# Altium footprint library Hauptplatine1.PcbLib: 50 footprints (part 1 of 4)
Each footprint in its own frame and in the unit in brackets; x right, y up, seen from the top. Pads: shape width x height; smd on the part's side, far side on the other; paste and mask are expansions set on the pad; w line width, h text height; cw(c..) or ccw(c..) is an arc to the next point about the centre after c.
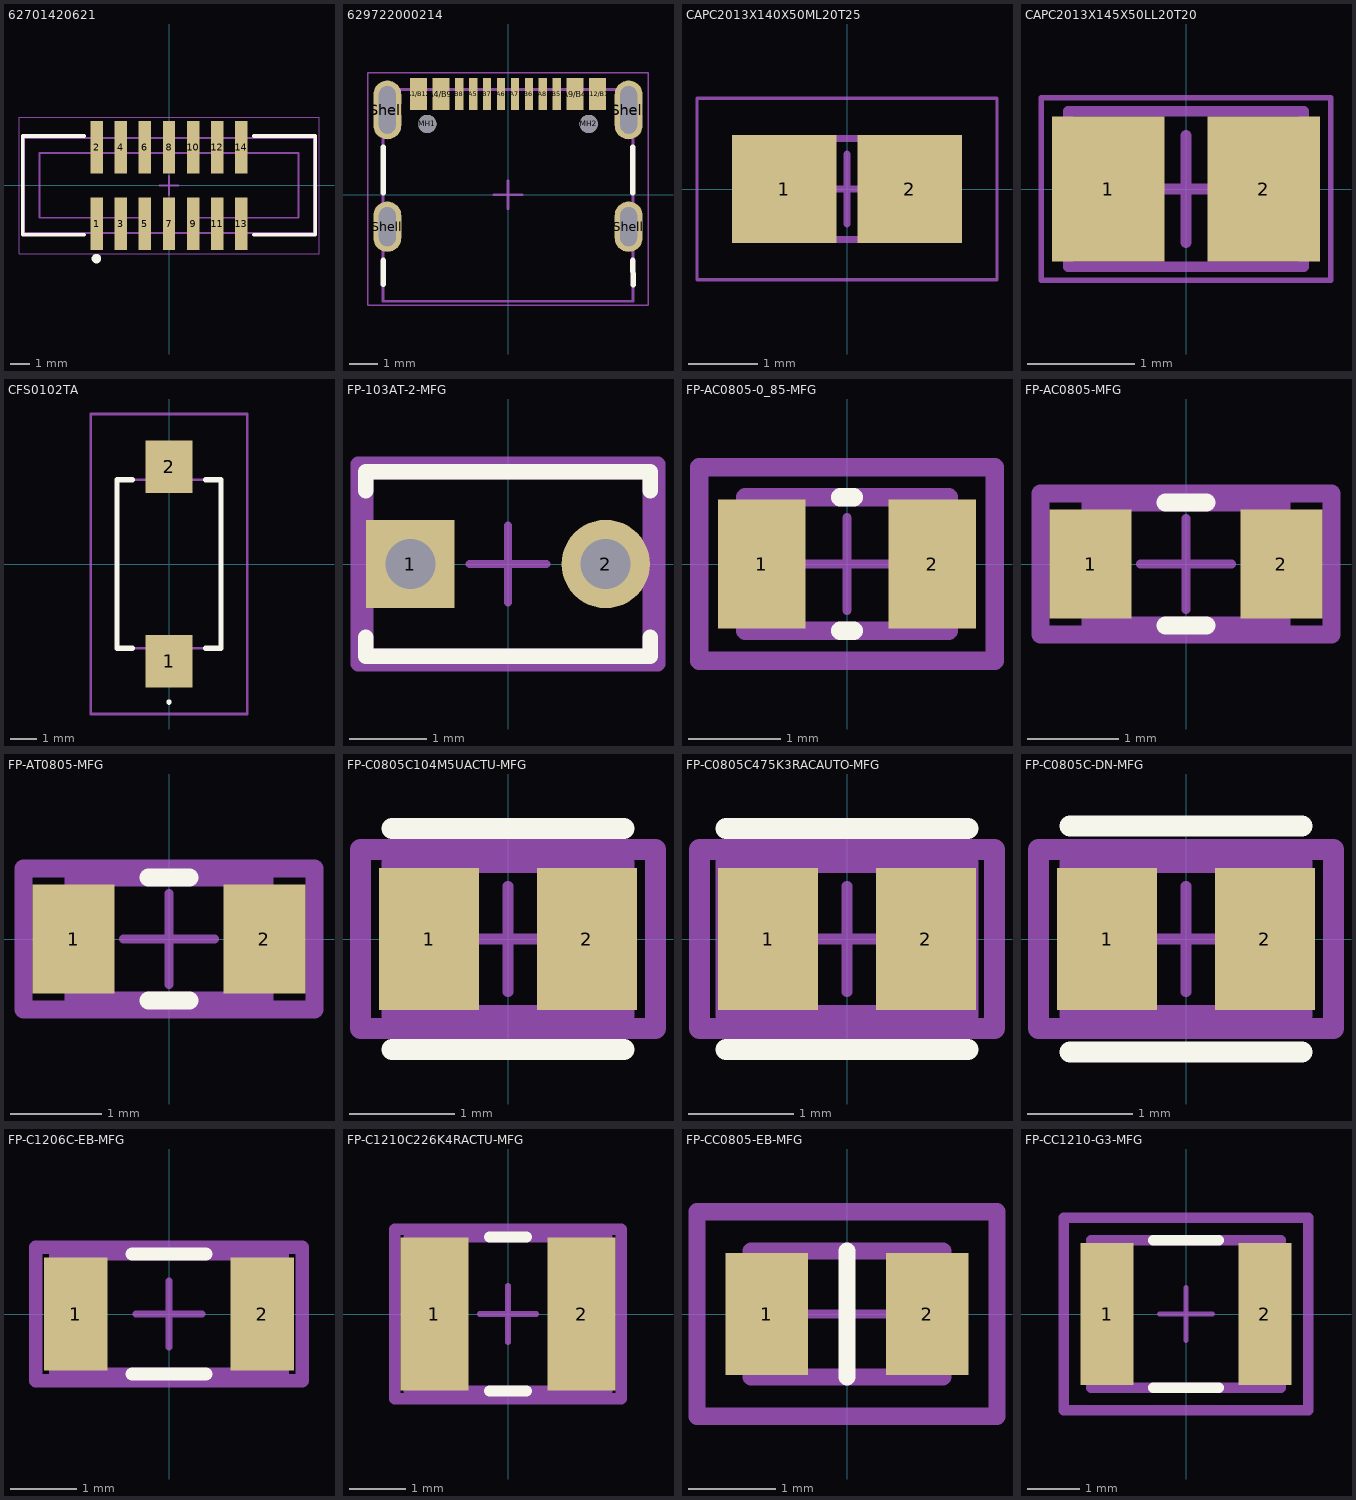
[diagram p0: the footprints below, top view; thin cyan lines are the x and y axes]

## 62701420621 [mm] "Boc Header SMT type, 14p"
height 5.3
pads (14):
  rect 0.65x2.76 smd: 1(-3.81,-2.02) 2(-3.81,2.02) 3(-2.54,-2.02) 4(-2.54,2.02) 5(-1.27,-2.02) 6(-1.27,2.02) 7(0,-2.02) 8(0,2.02) 9(1.27,-2.02) 10(1.27,2.02) 11(2.54,-2.02) 12(2.54,2.02) 13(3.81,-2.02) 14(3.81,2.02)
Top Overlay:
  circle w0.25: c-3.82,-3.85 r0.125
  lines w0.2: -4.47,-2.6 -7.695,-2.6 -7.695,2.6 -4.47,2.6 ; 4.47,-2.6 7.695,-2.6 7.695,2.6 4.47,2.6
Top 3D Body:
  lines w0.1: -1.2,-2.5 -1.2,-1.7 -6.82,-1.7 -6.82,1.7 6.82,1.7 6.82,-1.7 1.2,-1.7 1.2,-2.5 ; -7.62,-2.5 -7.62,2.5 7.62,2.5 7.62,-2.5 -7.62,-2.5
Top Courtyard:
  lines w0.05: -7.895,-3.6 7.895,-3.6 7.895,3.6 -7.895,3.6 -7.895,-3.6
Top Assembly:
  lines w0.1: -1.2,-2.5 -1.2,-1.7 -6.82,-1.7 -6.82,1.7 6.82,1.7 6.82,-1.7 1.2,-1.7 1.2,-2.5 ; -7.62,-2.5 7.62,-2.5 7.62,2.5 -7.62,2.5 -7.62,-2.5
Top Designator:
  text ".Designator" at -3.647,-0.357 h1
Top Component Center:
  lines w0.1: -0.5,0 0.5,0 ; 0,-0.5 0,0.5
3D body "62701420621.stp": height 5.2, standoff -0.04, extent -7.62,-2.8 7.62,2.8

## 629722000214 [mm] "USB TYPE C VERTICAL PLUG"
height 3.31
pads (18):
  rect 0.6x1.14 smd: A1/B12(-3.2,3.605) A4/B9(-2.4,3.605) A9/B4(2.4,3.605) A12/B1(3.2,3.605)
  rect 0.3x1.14 smd: A5(-1.25,3.605) A6(-0.25,3.605) A7(0.25,3.605) A8(1.25,3.605) B5(1.75,3.605) B6(0.75,3.605) B7(-0.75,3.605) B8(-1.75,3.605)
  round 0.65 hole 0.65 unplated: MH1(-2.89,2.535) MH2(2.89,2.535)
  oval 1x1.8 hole 0.6 slot 1.4 at 90 deg: Shell(-4.32,-1.145) Shell(4.32,-1.145)
  oval 1x2.1 hole 0.6 slot 1.7 at 90 deg: Shell(-4.32,3.035) Shell(4.32,3.035)
Top Overlay:
  lines w0.2: -4.47,-3.205 -4.47,-2.355 ; -4.47,0.065 -4.47,1.695 ; 4.47,-2.355 4.485,-3.222 ; 4.47,0.065 4.47,1.695
Top 3D Body:
  lines w0.1: -4.47,-3.765 -4.47,3.765 4.47,3.765 4.47,-3.765
Top Courtyard:
  lines w0.05: -5.02,-3.965 -5.02,4.375 5.02,4.375 5.02,-3.965 -5.02,-3.965
Top Assembly:
  lines w0.1: -4.47,-3.81 4.47,-3.81 4.47,3.765 -4.47,3.765 -4.47,-3.81
Top Designator:
  text ".Designator" at -3.647,-0.357 h1
Top Component Center:
  lines w0.1: -0.5,0 0.5,0 ; 0,-0.5 0,0.5
3D body "629722000214.stp": height 3.33, standoff -0.83, extent -4.79,-3.765 4.79,3.945

## CAPC2013X140X50ML20T25 [mm] "Chip Capacitor, 2-Leads, Body 2.00x1.25mm, IPC Low Density"
height 1.4
pads (2):
  rect 1.5x1.55 smd: 1(-0.9,0) 2(0.9,0)
Mechanical 13:
  lines w0.1: -1.1,-0.725 1.1,-0.725 1.1,0.725 -1.1,0.725 -1.1,-0.725
Mechanical 15:
  lines w0.05: -2.15,-1.3 2.15,-1.3 2.15,1.3 -2.15,1.3 -2.15,-1.3
  lines w0.1: -0.5,0 0.5,0 ; 0,-0.5 0,0.5
3D body: height 1.4, standoff 0, extent 0.6,-0.725 1.1,0.725
3D body: height 1.4, standoff 0, extent -1.1,-0.725 -0.6,0.725
3D body: height 1.4, standoff 0, extent -0.6,-0.725 0.6,0.725

## CAPC2013X145X50LL20T20 [mm] "Chip Capacitor, 2-Leads, Body 2.00x1.25mm, IPC High Density"
height 1.45
pads (2):
  rect 1.05x1.35 smd: 1(-0.725,0) 2(0.725,0)
Mechanical 13:
  lines w0.1: -1.1,-0.725 1.1,-0.725 1.1,0.725 -1.1,0.725 -1.1,-0.725
Mechanical 15:
  lines w0.05: -1.35,-0.85 1.35,-0.85 1.35,0.85 -1.35,0.85 -1.35,-0.85
  lines w0.1: -0.5,0 0.5,0 ; 0,-0.5 0,0.5
3D body: height 1.45, standoff 0, extent 0.6,-0.725 1.1,0.725
3D body: height 1.45, standoff 0, extent -1.1,-0.725 -0.6,0.725
3D body: height 1.45, standoff 0, extent -0.6,-0.725 0.6,0.725

## CFS0102TA [mm]
pads (2):
  rect 1.8x2 smd: 1(0,-3.7) 2(0,3.7)
Top Overlay:
  lines w0.1: 0,-5.3 ccw(c0,-5.25) 0,-5.2 ccw(c0,-5.25) 0,-5.3
  lines w0.2: -1.4,-3.2 -1.975,-3.2 -1.975,3.2 -1.4,3.2 ; 1.4,-3.2 1.975,-3.2 1.975,3.2 1.4,3.2
Mechanical 13:
  lines w0.1: -1.975,-3.2 -1.975,3.2 1.975,3.2 1.975,-3.2 -1.975,-3.2
Mechanical 15:
  lines w0.1: -2.975,-5.7 -2.975,5.7 2.975,5.7 2.975,-5.7 -2.975,-5.7
3D body "CFS-0102TA.stp": height 4.5, standoff 0, extent -1.975,-3.9 1.975,3.9

## FP-103AT-2-MFG [mm]
pads (2):
  rect 1.15x1.15 hole 0.65 paste-2539.97 mask+0: 1(-1.27,0)
  round 1.15 hole 0.65 paste-2539.97 mask+0: 2(1.27,0)
Top Overlay:
  lines w0.2: -1.85,-0.95 -1.85,-1.2 1.85,-1.2 1.85,-0.95 ; -1.85,0.95 -1.85,1.2 1.85,1.2 1.85,0.95
Top 3D Body:
  lines w0.2: -1.85,-1.2 -1.85,1.2 1.85,1.2 1.85,-1.2 -1.85,-1.2
Top Courtyard:
  lines w0.2: -1.95,-1.3 -1.95,1.3 1.95,1.3 1.95,-1.3 -1.95,-1.3
Top Assembly:
  lines w0.2: -1.95,-1.3 -1.95,1.3 1.95,1.3 1.95,-1.3 -1.95,-1.3
  text ".Designator" at 0,0.188 h1
Top Component Center:
  lines w0.1: -0.5,0 0.5,0 ; 0,-0.5 0,0.5
3D body "Res_Semitec_103AT-2_eec.STEP": height 9.5, standoff -4, extent -2.185,-1.2 2.185,1.2

## FP-AC0805-0_85-MFG [mm]
pads (2):
  rect 0.95x1.4 smd paste+0 mask+0: 1(-0.925,0) 2(0.925,0)
Top Overlay:
  lines w0.2: -0.075,-0.725 0.075,-0.725 ; -0.075,0.725 0.075,0.725
Top 3D Body:
  lines w0.2: -1.1,-0.725 1.1,-0.725 1.1,0.725 -1.1,0.725 -1.1,-0.725
Top Courtyard:
  lines w0.2: -1.6,-1.05 1.6,-1.05 1.6,1.05 -1.6,1.05 -1.6,-1.05
Top Assembly:
  lines w0.2: -1.6,-1.05 1.6,-1.05 1.6,1.05 -1.6,1.05 -1.6,-1.05
  text ".Designator" at 0,0.188 h1
Top Component Center:
  lines w0.1: -0.5,0 0.5,0 ; 0,-0.5 0,0.5
3D body "Cap_Yageo_AC0805JRNPOYBN151_eec.STEP": height 0.25, standoff 0, extent -1.6,-1.05 1.6,1.05

## FP-AC0805-MFG [mm]
pads (2):
  rect 0.9x1.2 smd paste+0 mask+0: 1(-1.05,0) 2(1.05,0)
Top Overlay:
  lines w0.2: -0.225,-0.675 0.225,-0.675 ; -0.225,0.675 0.225,0.675
Top 3D Body:
  lines w0.2: -1.05,-0.675 1.05,-0.675 1.05,0.675 -1.05,0.675 -1.05,-0.675
Top Courtyard:
  lines w0.2: -1.6,-0.775 1.6,-0.775 1.6,0.775 -1.6,0.775 -1.6,-0.775
Top Assembly:
  lines w0.2: -1.6,-0.775 1.6,-0.775 1.6,0.775 -1.6,0.775 -1.6,-0.775
  text ".Designator" at 0,0.188 h1
Top Component Center:
  lines w0.1: -0.5,0 0.5,0 ; 0,-0.5 0,0.5
3D body "Res_Yageo_AC0805FR-074R22L_eec.STEP": height 0.25, standoff 0, extent -1.6,-0.775 1.6,0.775

## FP-AT0805-MFG [mm]
pads (2):
  rect 0.9x1.2 smd paste+0 mask+0: 1(-1.05,0) 2(1.05,0)
Top Overlay:
  lines w0.2: -0.225,-0.675 0.225,-0.675 ; -0.225,0.675 0.225,0.675
Top 3D Body:
  lines w0.2: -1.05,-0.675 -1.05,0.675 1.05,0.675 1.05,-0.675 -1.05,-0.675
Top Courtyard:
  lines w0.2: -1.6,-0.775 -1.6,0.775 1.6,0.775 1.6,-0.775 -1.6,-0.775
Top Assembly:
  lines w0.2: -1.6,-0.775 -1.6,0.775 1.6,0.775 1.6,-0.775 -1.6,-0.775
  text ".Designator" at 0,0.188 h1
Top Component Center:
  lines w0.1: -0.5,0 0.5,0 ; 0,-0.5 0,0.5
3D body "Res_Yageo_AT0805BRA0710KL_eec.STEP": height 0.25, standoff 0, extent -1.6,-0.775 1.6,0.775

## FP-C0805C104M5UACTU-MFG [mm]
pads (2):
  rect 0.95x1.35 smd paste+0 mask+0: 1(-0.75,0) 2(0.75,0)
Top Overlay:
  lines w0.2: -1.1,-1.05 1.1,-1.05 ; -1.1,1.05 1.1,1.05
Top 3D Body:
  lines w0.2: -1.1,-0.725 1.1,-0.725 1.1,0.725 -1.1,0.725 -1.1,-0.725
Top Courtyard:
  lines w0.2: -1.4,-0.85 1.4,-0.85 1.4,0.85 -1.4,0.85 -1.4,-0.85
Top Assembly:
  lines w0.2: -1.4,-0.85 1.4,-0.85 1.4,0.85 -1.4,0.85 -1.4,-0.85
  text ".Designator" at 0,0.188 h1
Top Component Center:
  lines w0.1: -0.5,0 0.5,0 ; 0,-0.5 0,0.5
3D body "Cap_Kemet_C0805C104M5UACTU_eec.STEP": height 0.25, standoff 0, extent -1.4,-0.85 1.4,0.85

## FP-C0805C475K3RACAUTO-MFG [mm]
pads (2):
  rect 0.95x1.35 smd paste+0 mask+0: 1(-0.75,0) 2(0.75,0)
Top Overlay:
  lines w0.2: -1.15,-1.05 1.15,-1.05 ; -1.15,1.05 1.15,1.05
Top 3D Body:
  lines w0.2: -1.15,-0.725 1.15,-0.725 1.15,0.725 -1.15,0.725 -1.15,-0.725
Top Courtyard:
  lines w0.2: -1.4,-0.85 1.4,-0.85 1.4,0.85 -1.4,0.85 -1.4,-0.85
Top Assembly:
  lines w0.2: -1.4,-0.85 1.4,-0.85 1.4,0.85 -1.4,0.85 -1.4,-0.85
  text ".Designator" at 0,0.188 h1
Top Component Center:
  lines w0.1: -0.5,0 0.5,0 ; 0,-0.5 0,0.5
3D body "Cap_KEMET_C0805C475K3RACAUTO_eec.STEP": height 0.25, standoff 0, extent -1.4,-0.85 1.4,0.85

## FP-C0805C-DN-MFG [mm]
pads (2):
  rect 0.95x1.35 smd paste+0 mask+0: 1(-0.75,0) 2(0.75,0)
Top Overlay:
  lines w0.2: -1.1,-1.075 1.1,-1.075 ; -1.1,1.075 1.1,1.075
Top 3D Body:
  lines w0.2: -1.1,-0.725 -1.1,0.725 1.1,0.725 1.1,-0.725 -1.1,-0.725
Top Courtyard:
  lines w0.2: -1.4,-0.85 -1.4,0.85 1.4,0.85 1.4,-0.85 -1.4,-0.85
Top Assembly:
  lines w0.2: -1.4,-0.85 -1.4,0.85 1.4,0.85 1.4,-0.85 -1.4,-0.85
  text ".Designator" at 0,0.188 h1
Top Component Center:
  lines w0.1: -0.5,0 0.5,0 ; 0,-0.5 0,0.5
3D body "Cap_KEMET_C0805C472J3HAC_eec.STEP": height 0.25, standoff 0, extent -1.4,-0.85 1.4,0.85

## FP-C1206C-EB-MFG [mm]
pads (2):
  rect 0.95x1.7 smd paste+0 mask+0: 1(-1.4,0) 2(1.4,0)
Top Overlay:
  lines w0.2: -0.55,-0.9 0.55,-0.9 ; -0.55,0.9 0.55,0.9
Top 3D Body:
  lines w0.2: -1.7,-0.9 1.7,-0.9 1.7,0.9 -1.7,0.9 -1.7,-0.9
Top Courtyard:
  lines w0.2: -2,-1 2,-1 2,1 -2,1 -2,-1
Top Assembly:
  lines w0.2: -2,-1 2,-1 2,1 -2,1 -2,-1
  text ".Designator" at 0,0.188 h1
Top Component Center:
  lines w0.1: -0.5,0 0.5,0 ; 0,-0.5 0,0.5
3D body "Cap_KEMET_C1206C472K4RACTU_eec.STEP": height 0.25, standoff 0, extent -2,-1 2,1

## FP-C1210C226K4RACTU-MFG [mm]
pads (2):
  rect 1.2x2.7 smd paste+0 mask+0: 1(-1.3,0) 2(1.3,0)
Top Overlay:
  lines w0.2: -0.325,-1.36 0.325,-1.36 ; -0.325,1.36 0.325,1.36
Top 3D Body:
  lines w0.2: -1.75,-1.36 1.75,-1.36 1.75,1.36 -1.75,1.36 -1.75,-1.36
Top Courtyard:
  lines w0.2: -2,-1.5 2,-1.5 2,1.5 -2,1.5 -2,-1.5
Top Assembly:
  lines w0.2: -2,-1.5 2,-1.5 2,1.5 -2,1.5 -2,-1.5
  text ".Designator" at 0,0.188 h1
Top Component Center:
  lines w0.1: -0.5,0 0.5,0 ; 0,-0.5 0,0.5
3D body "Cap_KEMET_C1210C226K4RACTU_eec.STEP": height 0.25, standoff 0, extent -2,-1.5 2,1.5

## FP-CC0805-EB-MFG [mm]
pads (2):
  rect 0.95x1.4 smd paste+0 mask+0: 1(-0.925,0) 2(0.925,0)
Top Overlay:
  lines w0.2: 0,-0.725 0,0.725
Top 3D Body:
  lines w0.2: -1.1,-0.725 -1.1,0.725 1.1,0.725 1.1,-0.725 -1.1,-0.725
Top Courtyard:
  lines w0.2: -1.725,-1.175 -1.725,1.175 1.725,1.175 1.725,-1.175 -1.725,-1.175
Top Assembly:
  lines w0.2: -1.725,-1.175 -1.725,1.175 1.725,1.175 1.725,-1.175 -1.725,-1.175
  text ".Designator" at 0,-0.001 h1
Top Component Center:
  lines w0.1: -0.5,0 0.5,0 ; 0,-0.5 0,0.5
3D body "Cap_Yageo_CC0805KKX7R5BB105_eec.STEP": height 0.25, standoff 0, extent -1.725,-1.175 1.725,1.175

## FP-CC1210-G3-MFG [mm]
pads (2):
  rect 1x2.7 smd paste+0 mask+0: 1(-1.5,0) 2(1.5,0)
Top Overlay:
  lines w0.2: -0.625,-1.4 0.625,-1.4 ; -0.625,1.4 0.625,1.4
Top 3D Body:
  lines w0.2: -1.8,-1.4 1.8,-1.4 1.8,1.4 -1.8,1.4 -1.8,-1.4
Top Courtyard:
  lines w0.2: -2.325,-1.825 2.325,-1.825 2.325,1.825 -2.325,1.825 -2.325,-1.825
Top Assembly:
  lines w0.2: -2.325,-1.825 2.325,-1.825 2.325,1.825 -2.325,1.825 -2.325,-1.825
  text ".Designator" at 0,0.188 h1
Top Component Center:
  lines w0.1: -0.5,0 0.5,0 ; 0,-0.5 0,0.5
3D body "Cap_Yageo_CC1210KKX7R8BB225_eec.STEP": height 0.25, standoff 0, extent -2.325,-1.825 2.325,1.825